# EAGLE library part CD32-EXPANSION (library Amiga)
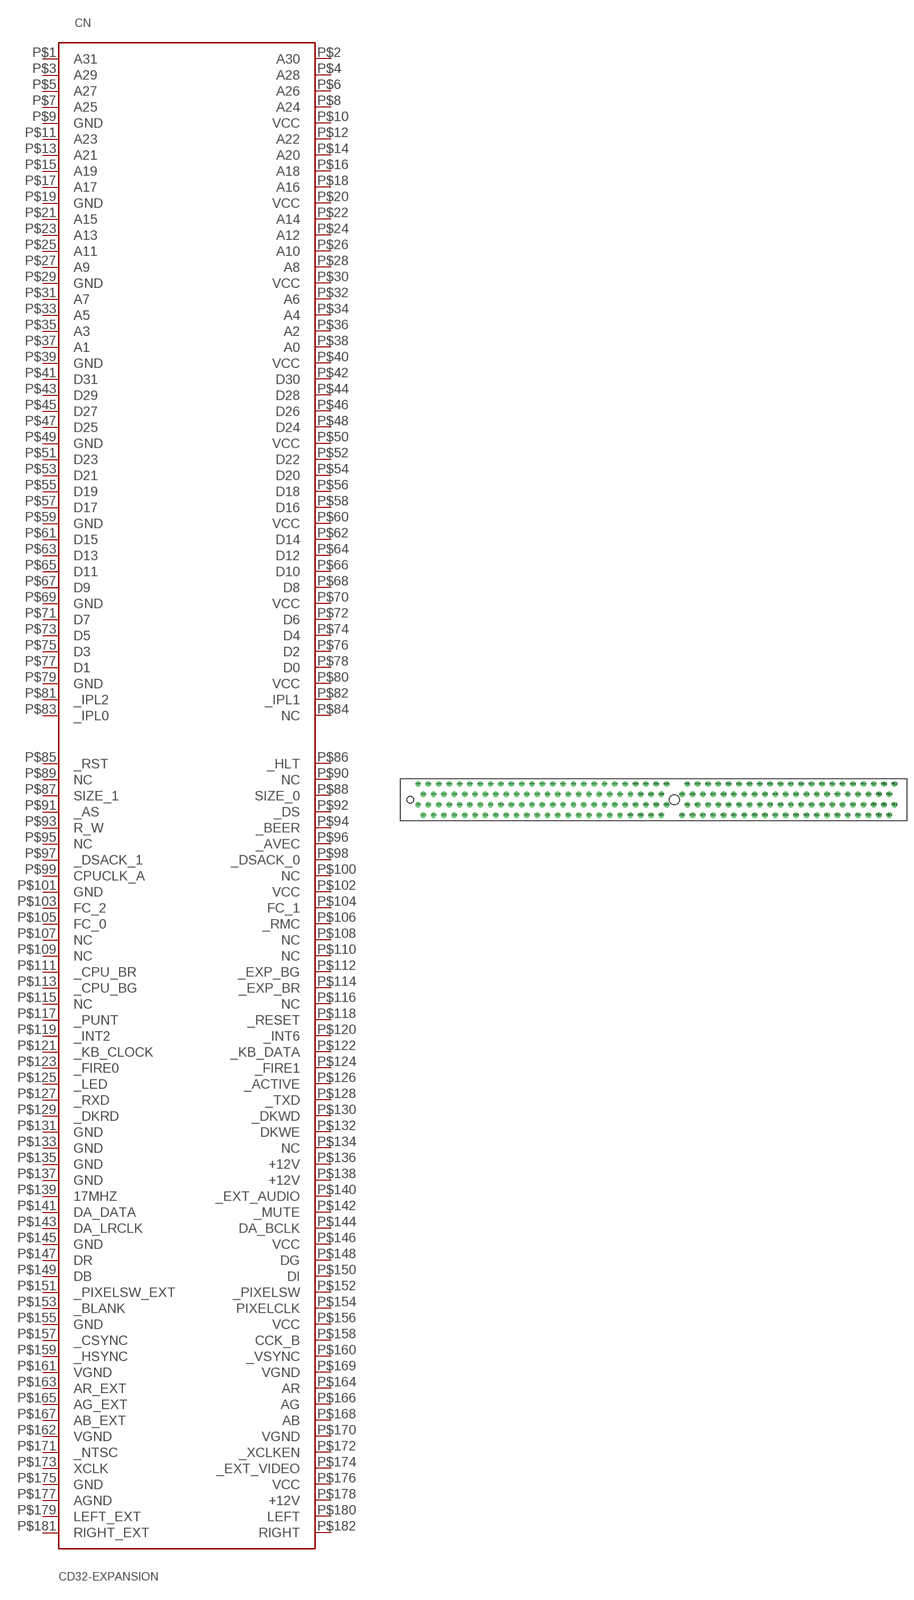
[diagram p16: symbol with the pads of CD32_EXPANSION_182_MCA; footprint CD32_EXPANSION_182_MCA]

Designator prefix CN

## CD32-EXPANSION  [CD32_EXPANSION_182_MCA]
P$1  A31
P$2  A30
P$3  A29
P$4  A28
P$5  A27
P$6  A26
P$7  A25
P$8  A24
P$9  GND
P$10  VCC
P$11  A23
P$12  A22
P$13  A21
P$14  A20
P$15  A19
P$16  A18
P$17  A17
P$18  A16
P$19  GND
P$20  VCC
P$21  A15
P$22  A14
P$23  A13
P$24  A12
P$25  A11
P$26  A10
P$27  A9
P$28  A8
P$29  GND
P$30  VCC
P$31  A7
P$32  A6
P$33  A5
P$34  A4
P$35  A3
P$36  A2
P$37  A1
P$38  A0
P$39  GND
P$40  VCC
P$41  D31
P$42  D30
P$43  D29
P$44  D28
P$45  D27
P$46  D26
P$47  D25
P$48  D24
P$49  GND
P$50  VCC
P$51  D23
P$52  D22
P$53  D21
P$54  D20
P$55  D19
P$56  D18
P$57  D17
P$58  D16
P$59  GND
P$60  VCC
P$61  D15
P$62  D14
P$63  D13
P$64  D12
P$65  D11
P$66  D10
P$67  D9
P$68  D8
P$69  GND
P$70  VCC
P$71  D7
P$72  D6
P$73  D5
P$74  D4
P$75  D3
P$76  D2
P$77  D1
P$78  D0
P$79  GND
P$80  VCC
P$81  _IPL2
P$82  _IPL1
P$83  _IPL0
P$84  NC
P$85  _RST
P$86  _HLT
P$87  SIZE_1
P$88  SIZE_0
P$89  NC
P$90  NC
P$91  _AS
P$92  _DS
P$93  R_W
P$94  _BEER
P$95  NC
P$96  _AVEC
P$97  _DSACK_1
P$98  _DSACK_0
P$99  CPUCLK_A
P$100  NC
P$101  GND
P$102  VCC
P$103  FC_2
P$104  FC_1
P$105  FC_0
P$106  _RMC
P$107  NC
P$108  NC
P$109  NC
P$110  NC
P$111  _CPU_BR
P$112  _EXP_BG
P$113  _CPU_BG
P$114  _EXP_BR
P$115  NC
P$116  NC
P$117  _PUNT
P$118  _RESET
P$119  _INT2
P$120  _INT6
P$121  _KB_CLOCK
P$122  _KB_DATA
P$123  _FIRE0
P$124  _FIRE1
P$125  _LED
P$126  _ACTIVE
P$127  _RXD
P$128  _TXD
P$129  _DKRD
P$130  _DKWD
P$131  GND
P$132  DKWE
P$133  GND
P$134  NC
P$135  GND
P$136  +12V
P$137  GND
P$138  +12V
P$139  17MHZ
P$140  _EXT_AUDIO
P$141  DA_DATA
P$142  _MUTE
P$143  DA_LRCLK
P$144  DA_BCLK
P$145  GND
P$146  VCC
P$147  DR
P$148  DG
P$149  DB
P$150  DI
P$151  _PIXELSW_EXT
P$152  _PIXELSW
P$153  _BLANK
P$154  PIXELCLK
P$155  GND
P$156  VCC
P$157  _CSYNC
P$158  CCK_B
P$159  _HSYNC
P$160  _VSYNC
P$161  VGND
P$162  VGND
P$163  AR_EXT
P$164  AR
P$165  AG_EXT
P$166  AG
P$167  AB_EXT
P$168  AB
P$169  VGND
P$170  VGND
P$171  _NTSC
P$172  _XCLKEN
P$173  XCLK
P$174  _EXT_VIDEO
P$175  GND
P$176  VCC
P$177  AGND
P$178  +12V
P$179  LEFT_EXT
P$180  LEFT
P$181  RIGHT_EXT
P$182  RIGHT

## Footprint CD32_EXPANSION_182_MCA (pad centres in mm)
drill 0.8: P$1 59.055,-1.27; P$2 59.055,3.81; P$3 57.785,-3.81; P$4 57.785,1.27; P$5 56.515,-1.27; P$6 56.515,3.81; P$7 55.245,-3.81; P$8 55.245,1.27; P$9 53.975,-1.27; P$10 53.975,3.81; P$11 52.705,-3.81; P$12 52.705,1.27; P$13 51.435,-1.27; P$14 51.435,3.81; P$15 50.165,-3.81; P$16 50.165,1.27; P$17 48.895,-1.27; P$18 48.895,3.81; P$19 47.625,-3.81; P$20 47.625,1.27; P$21 46.355,-1.27; P$22 46.355,3.81; P$23 45.085,-3.81; P$24 45.085,1.27; P$25 43.815,-1.27; P$26 43.815,3.81; P$27 42.545,-3.81; P$28 42.545,1.27; P$29 41.275,-1.27; P$30 41.275,3.81; P$31 40.005,-3.81; P$32 40.005,1.27; P$33 38.735,-1.27; P$34 38.735,3.81; P$35 37.465,-3.81; P$36 37.465,1.27; P$37 36.195,-1.27; P$38 36.195,3.81; P$39 34.925,-3.81; P$40 34.925,1.27; P$41 33.655,-1.27; P$42 33.655,3.81; P$43 32.385,-3.81; P$44 32.385,1.27; P$45 31.115,-1.27; P$46 31.115,3.81; P$47 29.845,-3.81; P$48 29.845,1.27; P$49 28.575,-1.27; P$50 28.575,3.81; P$51 27.305,-3.81; P$52 27.305,1.27; P$53 26.035,-1.27; P$54 26.035,3.81; P$55 24.765,-3.81; P$56 24.765,1.27; P$57 23.495,-1.27; P$58 23.495,3.81; P$59 22.225,-3.81; P$60 22.225,1.27; P$61 20.955,-1.27; P$62 20.955,3.81; P$63 19.685,-3.81; P$64 19.685,1.27; P$65 18.415,-1.27; P$66 18.415,3.81; P$67 17.145,-3.81; P$68 17.145,1.27; P$69 15.875,-1.27; P$70 15.875,3.81; P$71 14.605,-3.81; P$72 14.605,1.27; P$73 13.335,-1.27; P$74 13.335,3.81; P$75 12.065,-3.81; P$76 12.065,1.27; P$77 10.795,-1.27; P$78 10.795,3.81; P$79 9.525,-3.81; P$80 9.525,1.27; P$81 8.255,-1.27; P$82 8.255,3.81; P$83 6.985,-3.81; P$84 6.985,1.27; P$85 3.175,-1.27; P$86 3.175,3.81; P$87 1.905,-3.81; P$88 1.905,1.27; P$89 0.635,-1.27; P$90 0.635,3.81; P$91 -0.635,-3.81; P$92 -0.635,1.27; P$93 -1.905,-1.27; P$94 -1.905,3.81; P$95 -3.175,-3.81; P$96 -3.175,1.27; P$97 -4.445,-1.27; P$98 -4.445,3.81; P$99 -5.715,-3.81; P$100 -5.715,1.27; P$101 -6.985,-1.27; P$102 -6.985,3.81; P$103 -8.255,-3.81; P$104 -8.255,1.27; P$105 -9.525,-1.27; P$106 -9.525,3.81; P$107 -10.795,-3.81; P$108 -10.795,1.27; P$109 -12.065,-1.27; P$110 -12.065,3.81; P$111 -13.335,-3.81; P$112 -13.335,1.27; P$113 -14.605,-1.27; P$114 -14.605,3.81; P$115 -15.875,-3.81; P$116 -15.875,1.27; P$117 -17.145,-1.27; P$118 -17.145,3.81; P$119 -18.415,-3.81; P$120 -18.415,1.27; P$121 -19.685,-1.27; P$122 -19.685,3.81; P$123 -20.955,-3.81; P$124 -20.955,1.27; P$125 -22.225,-1.27; P$126 -22.225,3.81; P$127 -23.495,-3.81; P$128 -23.495,1.27; P$129 -24.765,-1.27; P$130 -24.765,3.81; P$131 -26.035,-3.81; P$132 -26.035,1.27; P$133 -27.305,-1.27; P$134 -27.305,3.81; P$135 -28.575,-3.81; P$136 -28.575,1.27; P$137 -29.845,-1.27; P$138 -29.845,3.81; P$139 -31.115,-3.81; P$140 -31.115,1.27; P$141 -32.385,-1.27; P$142 -32.385,3.81; P$143 -33.655,-3.81; P$144 -33.655,1.27; P$145 -34.925,-1.27; P$146 -34.925,3.81; P$147 -36.195,-3.81; P$148 -36.195,1.27; P$149 -37.465,-1.27; P$150 -37.465,3.81; P$151 -38.735,-3.81; P$152 -38.735,1.27; P$153 -40.005,-1.27; P$154 -40.005,3.81; P$155 -41.275,-3.81; P$156 -41.275,1.27; P$157 -42.545,-1.27; P$158 -42.545,3.81; P$159 -43.815,-3.81; P$160 -43.815,1.27; P$161 -45.085,-1.27; P$162 -45.085,3.81; P$163 -46.355,-3.81; P$164 -46.355,1.27; P$165 -47.625,-1.27; P$166 -47.625,3.81; P$167 -48.895,-3.81; P$168 -48.895,1.27; P$169 -50.165,-1.27; P$170 -50.165,3.81; P$171 -51.435,-3.81; P$172 -51.435,1.27; P$173 -52.705,-1.27; P$174 -52.705,3.81; P$175 -53.975,-3.81; P$176 -53.975,1.27; P$177 -55.245,-1.27; P$178 -55.245,3.81; P$179 -56.515,-3.81; P$180 -56.515,1.27; P$181 -57.785,-1.27; P$182 -57.785,3.81
hole 2.362 at 5.08,0
hole 1.6 at -59.69,0